# Altium footprint library BNC_SAMTEC.PcbLib: 1 footprints
Each footprint in its own frame and in the unit in brackets; x right, y up, seen from the top. Pads: shape width x height; smd on the part's side, far side on the other; paste and mask are expansions set on the pad; w line width, h text height; cw(c..) or ccw(c..) is an arc to the next point about the centre after c.
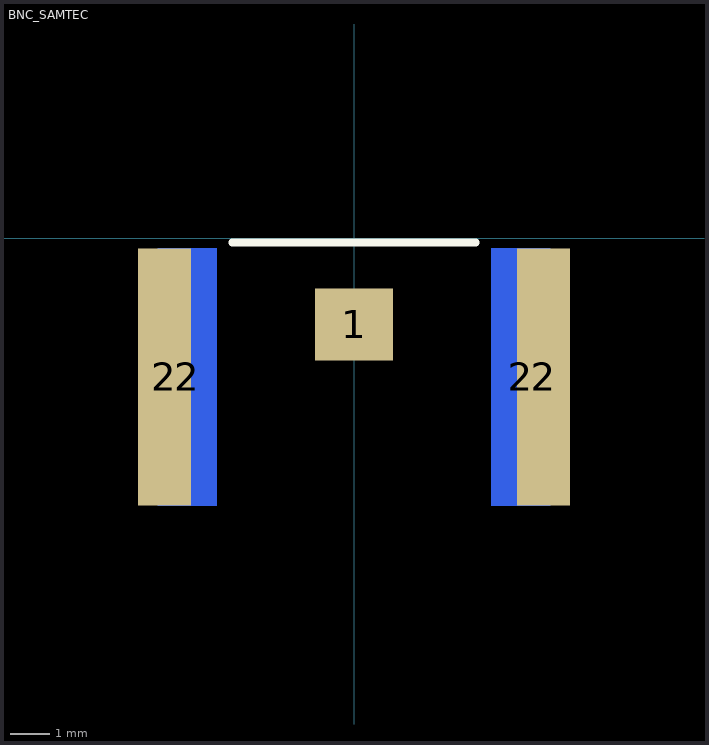
[diagram p0: the footprint, top view; thin cyan lines are the x and y axes]

## BNC_SAMTEC [mm] "BNC, Edge Mounted, Samtec"
pads (5):
  rect 1.98x1.83 smd: 1(0,-2.185)
  rect 1.35x6.55 smd: 2(-4.825,-3.525) 2(4.825,-3.525)
  rect 1.5x6.55 smd far side: 2(-4.25,-3.525) 2(4.25,-3.525)
Top Overlay:
  lines w0.2: -3.1,-0.1 3.1,-0.1
3D body "SAMTEC_BNC7T.SLDPRT": height 8.6, standoff -7.4, extent -8,-6.35 8,19.13